# EAGLE library part AMP_12_1.27 (library con-nem)
1.27mm DUAL ROW female AMP
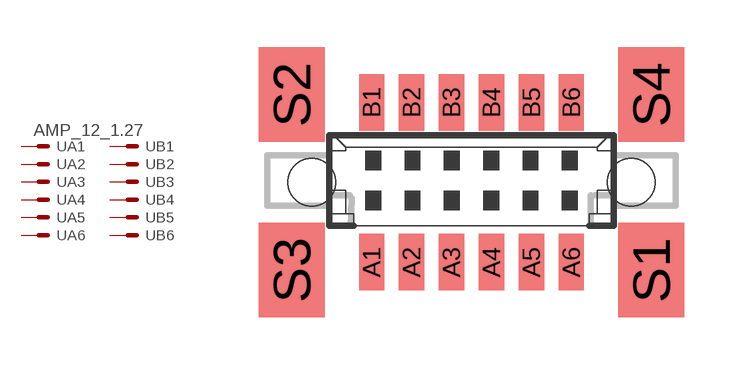
[diagram p0: symbol with the pads of AMP_127_SMD; footprint AMP_127_SMD]

Designator prefix -; gates A1=MV A2=M A3=M A4=M A5=M A6=M B1=M B2=M B3=M B4=M B5=M B6=M

## AMP_12_1.27  [AMP_127_SMD]
A1  A1:S  pas
A2  A2:S  pas
A3  A3:S  pas
A4  A4:S  pas
A5  A5:S  pas
A6  A6:S  pas
B1  B1:S  pas
B2  B2:S  pas
B3  B3:S  pas
B4  B4:S  pas
B5  B5:S  pas
B6  B6:S  pas

## Footprint AMP_127_SMD (pad centres in mm)
smd 0.8 x 1.8: A1 -3.175,-2.54; A2 -1.905,-2.54; A3 -0.635,-2.54; A4 0.635,-2.54; A5 1.905,-2.54; A6 3.175,-2.54; B1 -3.175,2.54; B2 -1.905,2.54; B3 -0.635,2.54; B4 0.635,2.54; B5 1.905,2.54; B6 3.175,2.54
smd 2.1 x 3: S1 5.715,-2.794; S2 -5.715,2.794; S3 -5.715,-2.794; S4 5.715,2.794
hole 1.5 at -5.08,0
hole 1.5 at 5.08,0